# EAGLE library part ADS1255 (library ds_ic_peripherals)
Very Low Noise, 24-Bit Analog-to-Digital Converter
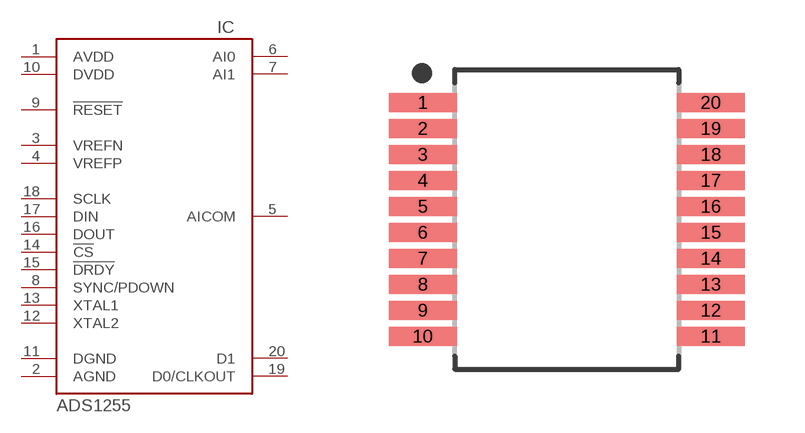
[diagram p59: symbol with the pads of SOP65P780X200-20N; footprint SOP65P780X200-20N]

Designator prefix IC

## ADS1255IDB  [SOP65P780X200-20N]
1  AVDD  pwr
2  AGND  pwr
3  VREFN  in
4  VREFP  in
5  AICOM  in
6  AI0  in
7  AI1  in
8  SYNC/PDOWN
9  !RESET
10  DVDD  pwr
11  DGND  pwr
12  XTAL2
13  XTAL1
14  !CS
15  !DRDY
16  DOUT
17  DIN
18  SCLK
19  D0/CLKOUT
20  D1

## Footprint SOP65P780X200-20N (pad centres in mm)
20-SOP, 0.65 mm pitch, 7.80 mm span, 7.20 X 5.30 X 2.00 mm body 20-pin SOP package with 0.65 mm pitch, 7.80 mm span with body size 7.20 X 5.30 X 2.00 mm
smd 1.702 x 0.475: 1 -3.603,2.925; 2 -3.603,2.275; 3 -3.603,1.625; 4 -3.603,0.975; 5 -3.603,0.325; 6 -3.603,-0.325; 7 -3.603,-0.975; 8 -3.603,-1.625; 9 -3.603,-2.275; 10 -3.603,-2.925; 11 3.603,-2.925; 12 3.603,-2.275; 13 3.603,-1.625; 14 3.603,-0.975; 15 3.603,-0.325; 16 3.603,0.325; 17 3.603,0.975; 18 3.603,1.625; 19 3.603,2.275; 20 3.603,2.925